# Altium footprint library 1.28IPS.PcbLib: 1 footprints
Each footprint in its own frame and in the unit in brackets; x right, y up, seen from the top. Pads: shape width x height; smd on the part's side, far side on the other; paste and mask are expansions set on the pad; w line width, h text height; cw(c..) or ccw(c..) is an arc to the next point about the centre after c.
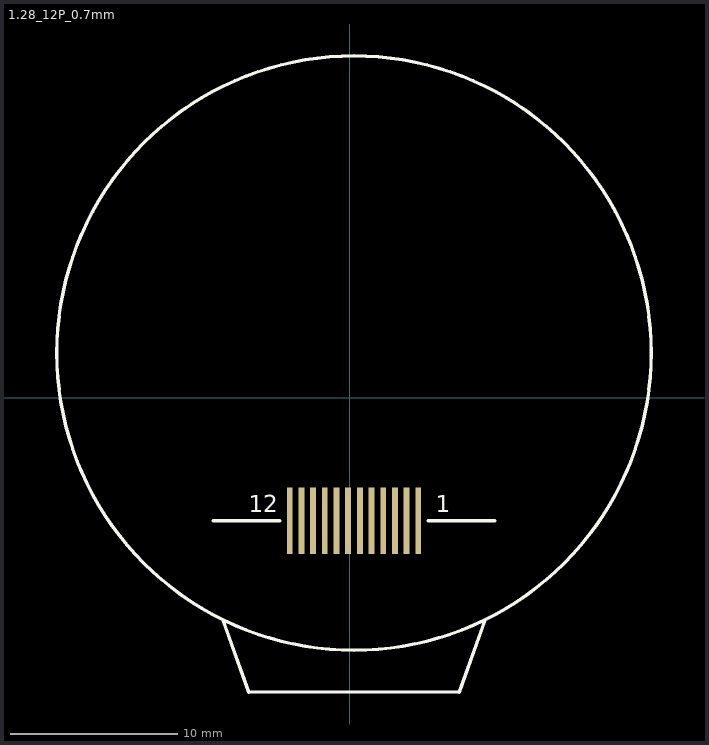
[diagram p0: the footprint, top view; thin cyan lines are the x and y axes]

## 1.28_12P_0.7mm [mm]
pads (12):
  rect 0.35x4 smd: 1(4.104,-7.383) 2(3.404,-7.383) 3(2.704,-7.383) 4(2.004,-7.383) 5(1.304,-7.383) 6(0.604,-7.383) 7(-0.096,-7.383) 8(-0.796,-7.383) 9(-1.496,-7.383) 10(-2.196,-7.383) 11(-2.896,-7.383) 12(-3.596,-7.383)
Top Overlay:
  circle w0.203: c0.254,2.667 r17.8
  region: 6.985,-17.526
  lines w0.203: -8.191,-7.383 -4.191,-7.383 ; -7.584,-13.339 -6.046,-17.639 ; -6.046,-17.633 6.554,-17.633 ; 4.699,-7.383 8.699,-7.383 ; 6.554,-17.645 8.092,-13.339
  text "1" at 5.153,-6.858 h1.02
  text "12" at -6.046,-6.858 h1.02